# Altium schematic symbol library MC78M05BDTG.schlib: 1 symbol
Pins are listed as number, name and electrical type; pins without a type are passive.

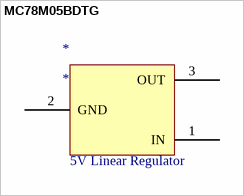
[diagram p0: symbol MC78M05BDTG]

## MC78M05BDTG
designator *
IC REG LINEAR 5V 0.5A DPAK3; Supplier 1: RSComponents; Supplier Part Number 1: 8051784
footprint PCBComponent_1
pins: 1 IN, 2 GND, 3 OUT
text: 5V Linear Regulator